# Altium footprint library VHIEU_Semiconductor.PcbLib: 2 footprints
Each footprint in its own frame and in the unit in brackets; x right, y up, seen from the top. Pads: shape width x height; smd on the part's side, far side on the other; paste and mask are expansions set on the pad; w line width, h text height; cw(c..) or ccw(c..) is an arc to the next point about the centre after c.
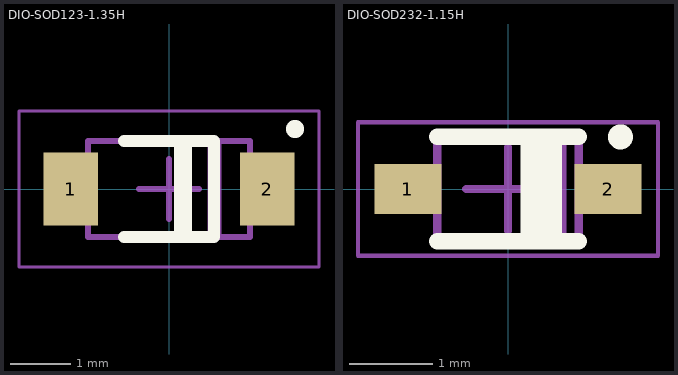
[diagram p0: the footprints below, top view; thin cyan lines are the x and y axes]

## DIO-SOD123-1.35H [mm] "SOD123_1N4148WS"
height 1.35
pads (2):
  rect 0.91x1.22 smd: 1(-1.64,0) 2(1.64,0)
Top Overlay:
  circle w0.2: c2.1,1 r0.05
  rectangle: 0.08,-0.8 0.38,0.8
  lines w0.2: -0.75,-0.8 0.75,-0.8 0.75,0.8 -0.75,0.8
Top Assembly:
  rectangle: 0.646,-0.8 0.876,0.8
  lines w0.1: -1.35,-0.8 -1.35,0.8 1.35,0.8 1.35,-0.8 -1.35,-0.8
  text "'.Designator'" at -3.872,-0.362 h1.6
Top Courtyard:
  lines w0.05: -2.5,-1.3 -2.5,1.3 2.5,1.3 2.5,-1.3 -2.5,-1.3
  lines w0.1: -0.5,0 0.5,0 ; 0,-0.5 0,0.5
Top Value:
  rectangle: 0.646,-0.8 0.876,0.8
  lines w0.1: -1.35,-0.8 -1.35,0.8 1.35,0.8 1.35,-0.8 -1.35,-0.8
  text "'.Comment'" at -3.512,-0.512 h1.6
Mechanical 20:
  rectangle: 0.646,-0.8 0.876,0.8
  lines w0.1: -1.35,-0.8 -1.35,0.8 1.35,0.8 1.35,-0.8 -1.35,-0.8
  text "'.Designator'" at -3.872,-0.362 h1.6
3D body "SOD-123.step": height 1.25, standoff 0, extent -1.849,-0.8 1.849,0.8

## DIO-SOD232-1.15H [mm] "SOD323 1.15H SMD (1N4148WS)"
height 1.15
pads (2):
  rect 0.8x0.6 smd: 1(-1.2,0) 2(1.2,0)
Top Overlay:
  circle w0.2: c1.35,0.625 r0.05
  rectangle: 0.15,-0.625 0.65,0.625
  lines w0.2: -0.85,-0.625 0.85,-0.625 ; -0.85,0.625 0.85,0.625
Top Assembly:
  region: 0.65,0.625 0.35,0.625 0.35,-0.625 0.65,-0.625
  lines w0.1: -0.852,-0.2 -1.345,-0.2 -1.345,0.2 -0.852,0.2 ; 0.35,-0.625 0.35,0.625 ; 0.65,-0.625 0.65,0.625 ; 0.852,-0.2 1.345,-0.2 1.345,0.2 0.852,0.2 ; -0.85,-0.625 -0.85,0.625 0.85,0.625 0.85,-0.625 -0.85,-0.625
  text "'.Designator'" at -3.872,-0.362 h1.6
Top Courtyard:
  lines w0.05: -1.8,-0.8 -1.8,0.8 1.8,0.8 1.8,-0.8 -1.8,-0.8
  lines w0.1: -0.5,0 0.5,0 ; 0,-0.5 0,0.5
Top Value:
  region: 0.65,0.625 0.35,0.625 0.35,-0.625 0.65,-0.625
  lines w0.1: -0.852,-0.2 -1.345,-0.2 -1.345,0.2 -0.852,0.2 ; 0.35,-0.625 0.35,0.625 ; 0.65,-0.625 0.65,0.625 ; 0.852,-0.2 1.345,-0.2 1.345,0.2 0.852,0.2 ; -0.85,-0.625 -0.85,0.625 0.85,0.625 0.85,-0.625 -0.85,-0.625
  text "'.Comment'" at -3.513,-0.512 h1.6
Mechanical 20:
  region: 0.65,0.625 0.35,0.625 0.35,-0.625 0.65,-0.625
  lines w0.1: -0.852,-0.2 -1.345,-0.2 -1.345,0.2 -0.852,0.2 ; 0.35,-0.625 0.35,0.625 ; 0.65,-0.625 0.65,0.625 ; 0.852,-0.2 1.345,-0.2 1.345,0.2 0.852,0.2 ; -0.85,-0.625 -0.85,0.625 0.85,0.625 0.85,-0.625 -0.85,-0.625
  text "'.Designator'" at -3.872,-0.362 h1.6
3D body "SOD2513X11.STEP": height 1.1, standoff 0, extent -1.35,-0.625 1.35,0.625